# Altium integrated library SEMTECH_Wireless.IntLib: 1 symbol
Pins are listed as number, name and electrical type; pins without a type are passive.

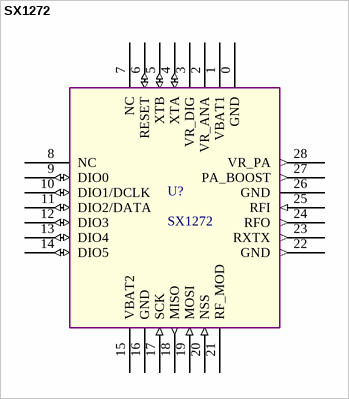
[diagram p0: symbol SX1272]

## SX1272
designator U?
SX1272/73 - 860 MHz to 1020 MHz Low Power Long Range Transceiver; CmponentLink1Description: Datasheet; CmponentLink1URL: http://www.semtech.com/images/datasheet/sx1272.pdf; Supplier 1: Mouser; Supplier Part Number 1: 947-SX1272IMLTRT
footprint QFN65P600X600X100-29_480X480 (QFN Recommended Land Pattern SX1272/73)
pins: 0 GND (power) "Exposed ground pad", 1 VBAT1 (power) "Supply voltage", 2 VR_ANA "Regulated supply voltage for analogue circuitry", 3 VR_DIG "Regulated supply voltage for digital blocks", 4 XTA (io) "XTAL connection or TCXO input", 5 XTB (io) "XTAL connection", 6 RESET (io) "Reset trigger input", 7 NC "Can be connected to Ground", 8 NC "Can be connected to Ground", 9 DIO0 (io) "Digital I/O, software configured", 10 DIO1/DCLK (io) "Digital I/O, software configured", 11 DIO2/DATA (io) "Digital I/O, software configured", 12 DIO3 (io) "Digital I/O, software configured", 13 DIO4 (io) "Digital I/O, software configured", 14 DIO5 (io) "Digital I/O, software configured", 15 VBAT2 (power) "Supply voltage", 16 GND (power) "Ground", 17 SCK (in) "SPI Clock input", 18 MISO (out) "SPI Data output", 19 MOSI (in) "SPI Data input", 20 NSS (in) "SPI Chip select input", 21 RF_MOD "NC", 22 GND (out) "Ground", 23 RXTX (out) "Rx/Tx switch control: high in Tx", 24 RFO (out) "RF output", 25 RFI (in) "RF input", 26 GND (power) "Ground", 27 PA_BOOST (out) "Optional high-power PA output", 28 VR_PA (out) "Regulated supply for the PA"